# EAGLE library part TJA1040 (library bytewerk-network)
High Speed CAN-Tranceiver - Split Pin - StandBy
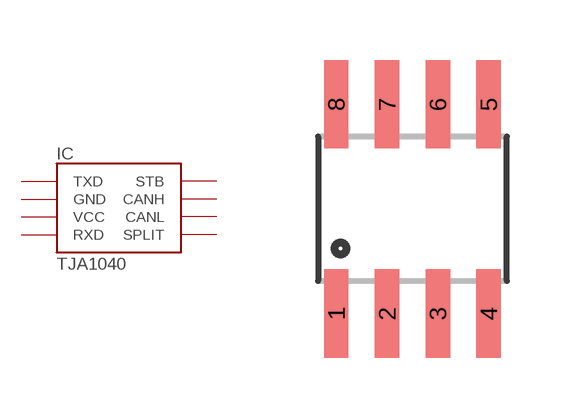
[diagram p0: symbol with the pads of SO08; footprint SO08]

Designator prefix IC

## TJA1040  [SO08]
1  TXD  in
2  GND  pwr
3  VCC  pwr
4  RXD  out
5  SPLIT  pas
6  CANL  pas
7  CANH  pas
8  STB  in

## Footprint SO08 (pad centres in mm)
Small Outline Package Fits JEDEC packages (narrow SOIC-8)
smd 0.61 x 2.21: 1 -1.905,-2.616; 2 -0.635,-2.616; 3 0.635,-2.616; 4 1.905,-2.616; 5 1.905,2.616; 6 0.635,2.616; 7 -0.635,2.616; 8 -1.905,2.616